# Altium footprint library XH Connector.PcbLib: 12 footprints
Each footprint in its own frame and in the unit in brackets; x right, y up, seen from the top. Pads: shape width x height; smd on the part's side, far side on the other; paste and mask are expansions set on the pad; w line width, h text height; cw(c..) or ccw(c..) is an arc to the next point about the centre after c.
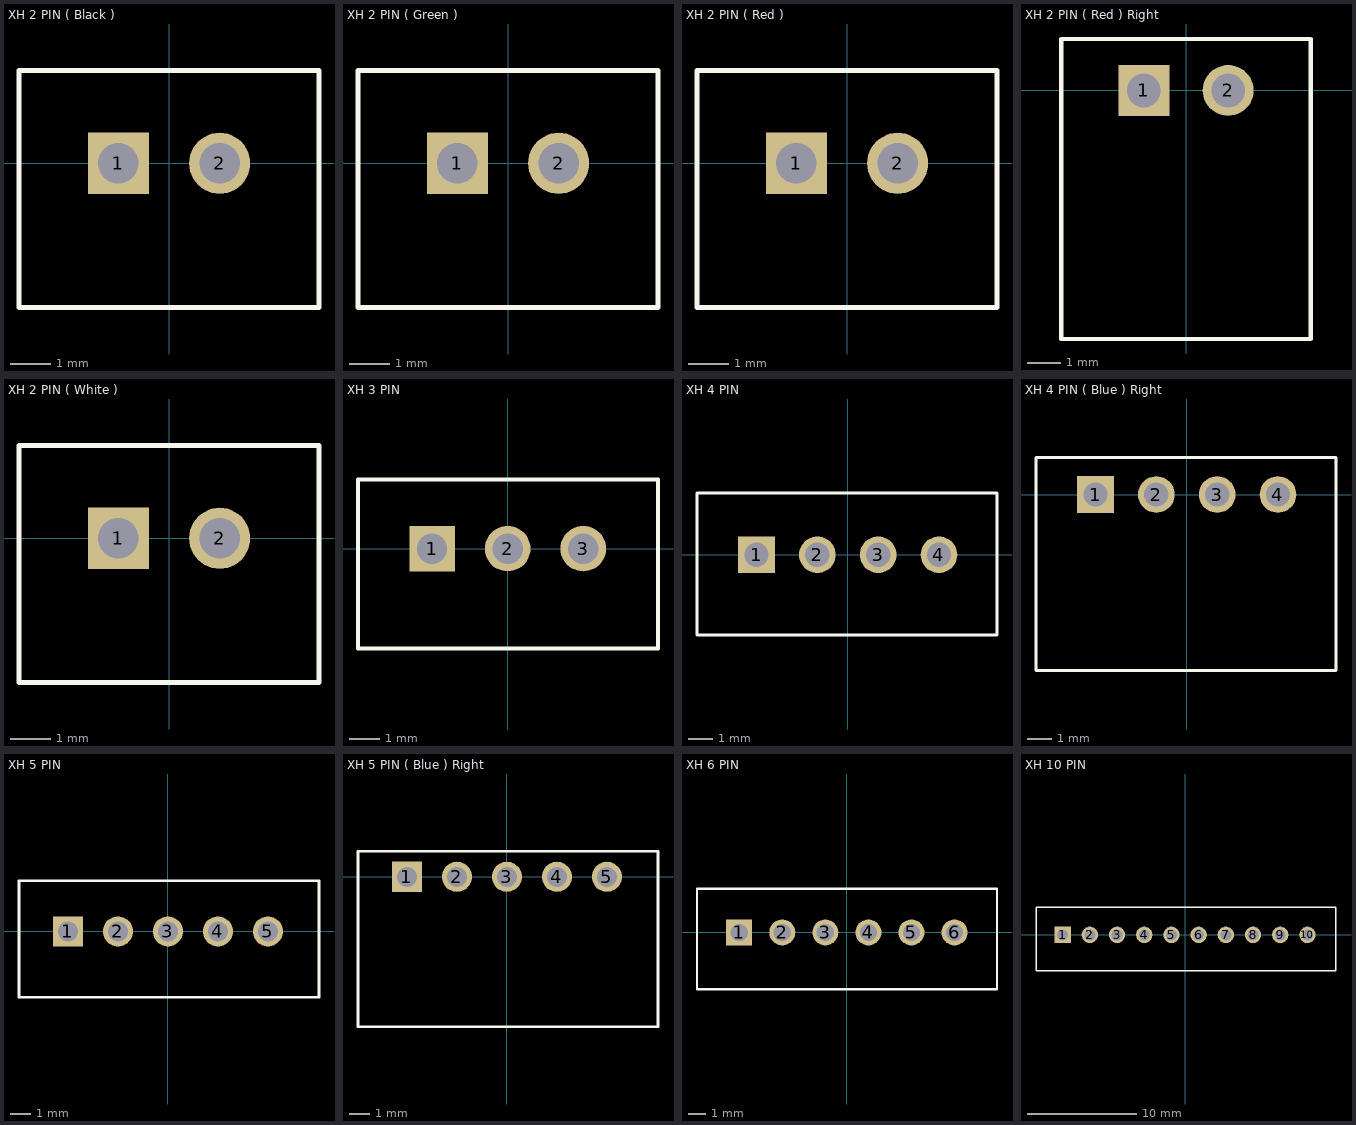
[diagram p0: the footprints below, top view; thin cyan lines are the x and y axes]

## XH 2 PIN ( Black ) [mm]
pads (2):
  rect 1.508x1.508 hole 1: 1(-1.25,0)
  round 1.508 hole 1: 2(1.25,0)
Top Overlay:
  lines w0.127: -3.7,-3.556 3.7,-3.556 3.7,2.286 -3.7,2.286 -3.7,-3.556
3D body "XH 2 Pin Black.step": height 7, standoff -3.3, extent -3.759,-3.383 3.741,2.317

## XH 2 PIN ( Green ) [mm]
pads (2):
  rect 1.508x1.508 hole 1: 1(-1.25,0)
  round 1.508 hole 1: 2(1.25,0)
Top Overlay:
  lines w0.127: -3.7,-3.556 3.7,-3.556 3.7,2.286 -3.7,2.286 -3.7,-3.556
3D body "XH 2 Pin  Green.step": height 7, standoff -3.3, extent -3.75,-3.414 3.75,2.286

## XH 2 PIN ( Red ) [mm]
pads (2):
  rect 1.508x1.508 hole 1: 1(-1.25,0)
  round 1.508 hole 1: 2(1.25,0)
Top Overlay:
  lines w0.127: -3.7,-3.556 3.7,-3.556 3.7,2.286 -3.7,2.286 -3.7,-3.556
3D body "XH 2 Pin  Red.step": height 7, standoff -3.3, extent -3.75,-3.439 3.75,2.261

## XH 2 PIN ( Red ) Right [mm]
pads (2):
  rect 1.508x1.508 hole 1: 1(-1.25,0)
  round 1.508 hole 1: 2(1.25,0)
Top Overlay:
  lines w0.127: -3.7,-7.366 -3.7,1.524 3.7,1.524 3.7,-7.366 -3.7,-7.366
3D body "XH 2 Pin  Red Right .step": height 6.55, standoff -3.4, extent -3.8,-7.32 3.8,1.48

## XH 2 PIN ( White ) [mm]
pads (2):
  rect 1.508x1.508 hole 1: 1(-1.25,0)
  round 1.508 hole 1: 2(1.25,0)
Top Overlay:
  lines w0.127: -3.7,-3.556 3.7,-3.556 3.7,2.286 -3.7,2.286 -3.7,-3.556
3D body "User Library-XH2_54_ZC_2P.step": height 7, standoff -4, extent -3.7,-3.556 3.7,2.244

## XH 3 PIN [mm]
pads (3):
  rect 1.508x1.508 hole 1: 1(-2.5,0)
  round 1.508 hole 1: 2(0,0) 3(2.5,0)
Top Overlay:
  lines w0.127: -4.95,-3.302 4.973,-3.302 4.973,2.286 -4.95,2.286 -4.95,-3.302
3D body "User Library-XH-A-2.step": height 7.24, standoff -3.16, extent -4.933,-3.304 4.967,2.796

## XH 4 PIN [mm]
pads (4):
  rect 1.508x1.508 hole 1: 1(-3.75,0)
  round 1.508 hole 1: 2(-1.25,0) 3(1.25,0) 4(3.75,0)
Top Overlay:
  lines w0.127: -6.2,-3.302 -6.2,2.54 6.136,2.54 6.136,-3.302 -6.2,-3.302
3D body "User Library-JST XH TH 4Pin 2 (1).step": height 7.21, standoff -3, extent -6.047,-3.353 6.127,2.489

## XH 4 PIN ( Blue ) Right [mm]
pads (4):
  rect 1.508x1.508 hole 1: 1(-3.75,0)
  round 1.508 hole 1: 2(-1.25,0) 3(1.25,0) 4(3.75,0)
Top Overlay:
  lines w0.127: -6.2,-7.239 -6.2,1.524 6.136,1.524 6.136,-7.239 -6.2,-7.239
3D body "XH 4 Pin Blue Right .step": height 6.55, standoff -3.4, extent -6.235,-7.32 6.265,1.48

## XH 5 PIN [mm]
pads (5):
  rect 1.508x1.508 hole 1: 1(-5,0)
  round 1.508 hole 1: 2(-2.5,0) 3(0,0) 4(2.5,0) 5(5,0)
Top Overlay:
  lines w0.127: -7.45,-3.302 -7.45,2.54 7.553,2.54 7.553,-3.302 -7.45,-3.302
3D body "XH 5 Pin  White.step": height 7, standoff -1.8, extent -7.549,-3.378 7.491,2.422

## XH 5 PIN ( Blue ) Right [mm]
pads (5):
  rect 1.508x1.508 hole 1: 1(-5,0)
  round 1.508 hole 1: 2(-2.5,0) 3(0,0) 4(2.5,0) 5(5,0)
Top Overlay:
  lines w0.127: -7.45,-7.493 7.553,-7.493 7.553,1.27 -7.45,1.27 -7.45,-7.493
3D body "XH 5 Pin Blue Right .step": height 5.74, standoff -1.5, extent -7.491,-7.497 7.509,0.229

## XH 6 PIN [mm]
pads (6):
  rect 1.508x1.508 hole 1: 1(-6.25,0)
  round 1.508 hole 1: 2(-3.75,0) 3(-1.25,0) 4(1.25,0) 5(3.75,0) 6(6.25,0)
Top Overlay:
  lines w0.127: -8.7,-3.302 8.716,-3.302 8.716,2.54 -8.7,2.54 -8.7,-3.302
3D body "XH 6 Pin  White.step": height 7.21, standoff -3, extent -8.683,-3.353 8.69,2.489

## XH 10 PIN [mm]
pads (10):
  rect 1.508x1.508 hole 1: 1(-11.25,0)
  round 1.508 hole 1: 2(-8.75,0) 3(-6.25,0) 4(-3.75,0) 5(-1.25,0) 6(1.25,0) 7(3.75,0) 8(6.25,0) 9(8.75,0) 10(11.25,0)
Top Overlay:
  lines w0.127: -13.7,-3.302 -13.7,2.54 13.876,2.54 13.876,-3.302 -13.7,-3.302
3D body "XH 10 Pin  White.step": height 7.21, standoff -3, extent -13.683,-3.429 13.851,2.413